# EAGLE library part DF30FB-50DP-0.4V(82) (library Sala-Eng-Hirose)
Hirose .4mm 50 pin surface mount b2b connector DF30FB-50DP-0.4V(82) Plug
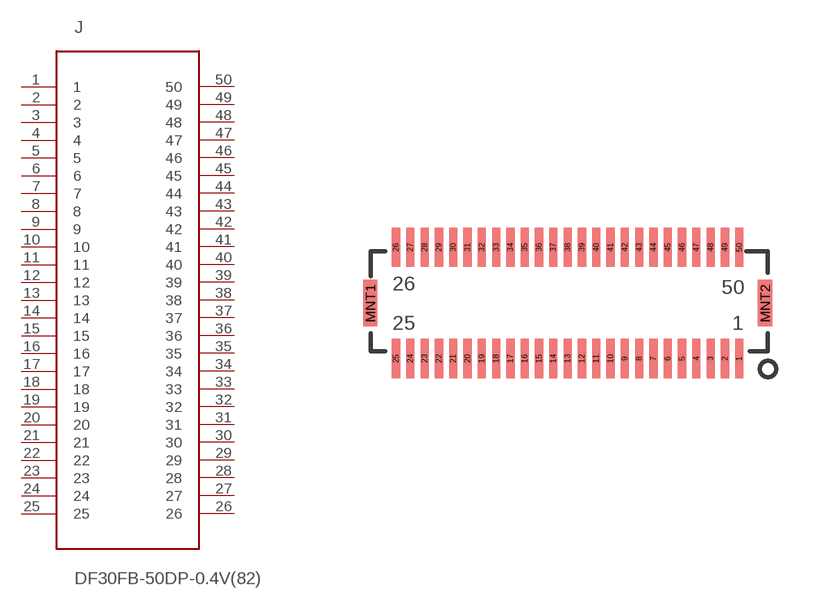
[diagram p1: symbol with the pads of DF30FB-50DP-0.4V(82); footprint DF30FB-50DP-0.4V(82)]

Designator prefix J

## DF30FB-50DP-0.4V(82) (MAN-PART-NUM: DF30FB-50DP-0.4V(82); MANUFACTURER: HIROSE)  [DF30FB-50DP-0.4V(82)]
1  1  pas
2  2  pas
3  3  pas
4  4  pas
5  5  pas
6  6  pas
7  7  pas
8  8  pas
9  9  pas
10  10  pas
11  11  pas
12  12  pas
13  13  pas
14  14  pas
15  15  pas
16  16  pas
17  17  pas
18  18  pas
19  19  pas
20  20  pas
21  21  pas
22  22  pas
23  23  pas
24  24  pas
25  25  pas
26  26  pas
27  27  pas
28  28  pas
29  29  pas
30  30  pas
31  31  pas
32  32  pas
33  33  pas
34  34  pas
35  35  pas
36  36  pas
37  37  pas
38  38  pas
39  39  pas
40  40  pas
41  41  pas
42  42  pas
43  43  pas
44  44  pas
45  45  pas
46  46  pas
47  47  pas
48  48  pas
49  49  pas
50  50  pas

## Footprint DF30FB-50DP-0.4V(82) (pad centres in mm)
Hirose 50 Pin .4mm Surface Mount Connector Header (with metal fittings) DF30FB-50DP-0.4V(82)
smd 0.23 x 1.1: 1 4.8,-1.555; 2 4.4,-1.555; 3 4,-1.555; 4 3.6,-1.555; 5 3.2,-1.555; 6 2.8,-1.555; 7 2.4,-1.555; 8 2,-1.555; 9 1.6,-1.555; 10 1.2,-1.555; 11 0.8,-1.555; 12 0.4,-1.555; 13 0,-1.555; 14 -0.4,-1.555; 15 -0.8,-1.555; 16 -1.2,-1.555; 17 -1.6,-1.555; 18 -2,-1.555; 19 -2.4,-1.555; 20 -2.8,-1.555; 21 -3.2,-1.555; 22 -3.6,-1.555; 23 -4,-1.555; 24 -4.4,-1.555; 25 -4.8,-1.555; 26 -4.8,1.555; 27 -4.4,1.555; 28 -4,1.555; 29 -3.6,1.555; 30 -3.2,1.555; 31 -2.8,1.555; 32 -2.4,1.555; 33 -2,1.555; 34 -1.6,1.555; 35 -1.2,1.555; 36 -0.8,1.555; 37 -0.4,1.555; 38 0,1.555; 39 0.4,1.555; 40 0.8,1.555; 41 1.2,1.555; 42 1.6,1.555; 43 2,1.555; 44 2.4,1.555; 45 2.8,1.555; 46 3.2,1.555; 47 3.6,1.555; 48 4,1.555; 49 4.4,1.555; 50 4.8,1.555
smd 0.4 x 1.3: MNT1 -5.52,-0.005; MNT2 5.52,-0.005